# Altium schematic symbol library LF358.Schlib: 1 symbol
Pins are listed as number, name and electrical type; pins without a type are passive.

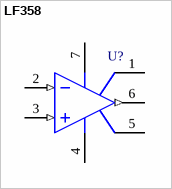
[diagram p0: symbol LF358]

## LF358
designator U?
pins: 1 CXA, 2 IN- (in), 3 IN+ (in), 4 VDD- (power), 5, 6 OUT (out), 7 VDD+ (power)